# EAGLE library part NXP-74HCT165D (library eq_Control_Board)
NXP 74HCT165D Parallel-to-Serial Shift Register, 8 bit, Parallel load or Serial shift
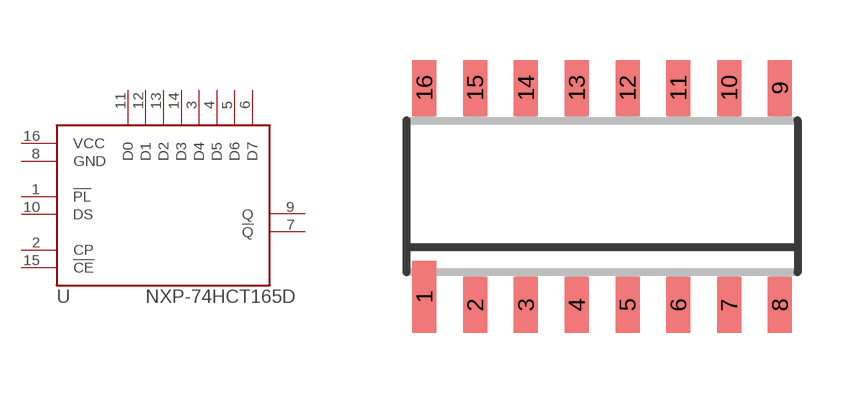
[diagram p6: symbol with the pads of SOIC-16D; footprint SOIC-16D]

Designator prefix -

## NXP-74HCT165D  [SOIC-16D]
1  !PL
2  CP
3  D4
4  D5
5  D6
6  D7
7  !Q
8  GND
9  Q
10  DS
11  D0
12  D1
13  D2
14  D3
15  !CE
16  VCC

## Footprint SOIC-16D (pad centres in mm)
smd 0.6 x 1.8: 1 -4.445,-2.515
smd 0.6 x 1.4: 2 -3.175,-2.715; 3 -1.905,-2.715; 4 -0.635,-2.715; 5 0.635,-2.715; 6 1.905,-2.715; 7 3.175,-2.715; 8 4.445,-2.715; 9 4.445,2.715; 10 3.175,2.715; 11 1.905,2.715; 12 0.635,2.715; 13 -0.635,2.715; 14 -1.905,2.715; 15 -3.175,2.715; 16 -4.445,2.715